# Altium integrated library OPT3001DNPR.IntLib: 1 symbol
Pins are listed as number, name and electrical type; pins without a type are passive.

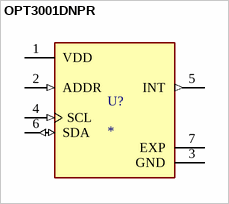
[diagram p0: symbol OPT3001DNPR]

## OPT3001DNPR
designator U?
Optical Sensor Ambient 550nm IÂ²C 6-UDFN Exposed Pad <a href="https://snapeda.com/parts/OPT3001DNPR/Texas%20Instruments/view-part/?ref=eda">Buy Part</a>; Price: None; Package: None; Availability: Unavailable; MP: OPT3001DNPR; Value: *
footprint SON65P200X200X65-7N
pins: 1 VDD (power), 2 ADDR (in), 3 GND (power), 4 SCL (in), 5 INT (out), 6 SDA (io), 7 EXP